# Altium schematic symbol library E-Stall_lib.SchLib: 14 symbols
Pins are listed as number, name and electrical type; pins without a type are passive.

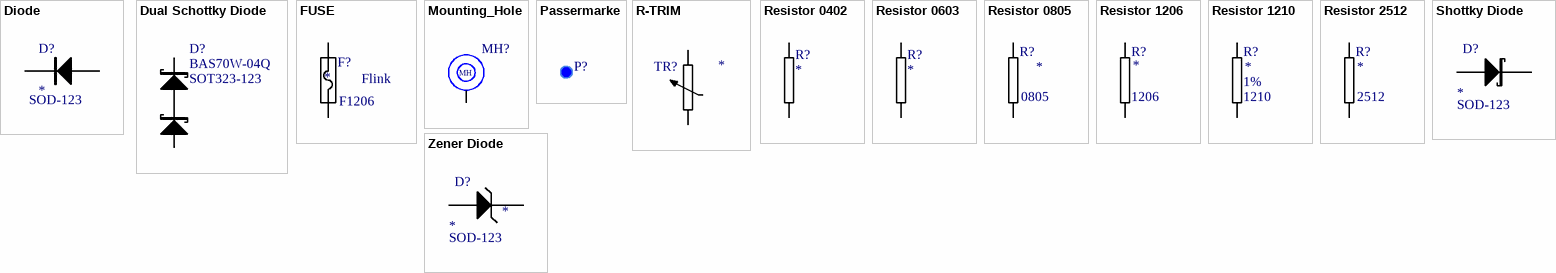
[diagram p0: symbols Diode to Zener Diode]

## Diode
designator D?
Single Standard Diode; Model: *; PowerRating: *; Diode Type: Standard Diode; ComponentLink1Description: Datasheet; ComponentLink1URL: http://
footprint DO - 213AA - SM1 (MELF Diode, 2-Leads, Body 3,50x1,35mm, IPC High Density)
footprint DO - 213AB - SM1 (MELF Diode, 2-Leads, Body 5,73x2,10mm, IPC High Density)
footprint DO - 214AA - SMB (Molded Diode, 2-Leads, Body 4,32x3,63mm, IPC High Density)
footprint DO - 214AB - SMC (Molded Diode, 2-Leads, Body 6,85x5,90mm, IPC High Density)
footprint DO - 214AC - SMA (Molded Diode, 2-Leads, Body 4,25x2,67mm, IPC High Density)
footprint SOD-123
footprint SOD-323
footprint DO - 214AC HV_Spacing (DO-214 1.2kV SiC-Diode , 2-Leads, Body 4,31x3,62mm, IPC Medium Density)
pins: A, K

## Dual Schottky Diode
designator D?, comment BAS70W-04Q
DUAL SCHOTTKY DIODE SERIES; Model: BAS70W-04Q
footprint SOT323-123 (SOT23 WITH A/K PIN NUMBERS)
pins: 1, 2, 3

## FUSE
designator F?  Charakteristik: Flink
Sicherung; Vmax: *; Value: *
footprint Littlefuse 485 Series
footprint F1206 (Fuse 1206)
footprint F0603 (Chip Fuse, 2-Leads, Body 1,57x0,85mm, IPC High Density)
footprint F0805 (Chip Fuse, 2-Leads, Body 2,05x1,25mm, IPC High Density)
footprint F1812 (Chip Fuse, 2-Leads, Body 4,50x3,20mm, IPC Medium Density)
footprint F1210 (Chip Fuse, 2-Leads, Body 3,20x2,50mm, IPC Medium Density)
footprint F2920 (Chip Fuse, 2-Leads, Body 7,36x5,12mm, IPC Medium Density)
footprint F2016
footprint F2018 (Chip Fuse, 2-Leads, Body 5,08x4,56mm, IPC Medium Density)
footprint F2410 (Footprint für 2410 Sicherungen)
pins: 1, 2

## Mounting_Hole
designator MH?  (value not drawn)  (no BOM)
Montagebohrung
footprint Mountinghole_Screw (Hole with 3D Model of Würth WE-SCRW M3x4mm)
footprint Mountinghole_Nut (Hole with 3D Model of DIN 985 Locknut +Keepout for Wera Nut driver)
pins: 0
text: MH

## Passermarke
designator P?  (value not drawn)
Passermarke für die Automatische Bestückung bei Kurz Elektronik
footprint Passermarke

## R-TRIM
designator TR?
Potentiometer; Value: *
footprint BOURNS_3296W_POT (poti_W_style)
footprint VISHAY_TS53YJ_POT (SMD Potentiometer VISHAY TS53YJ)
pins: 1, 2, 3

## Resistor 0402
designator R?
Resistor 0402; Rated Power: 0,1W; Max Voltage: 75V; Tolerance: 1%; ComponentLink1Description: Datasheet; ComponentLink1URL: http://www.farnell.com/datasheets/1960319.pdf?_ga=2.114917703.1125971746.1567871307-805392374.1556992174; Value: *; Footprint: 0603
footprint R0402 (Chip Resistor, 2-Leads, Body 1,00x0,50mm, IPC High Density)
pins: 1, 2

## Resistor 0603
designator R?
Resistor 0603; Rated Power: 0,1W; Max Voltage: 75V; Tolerance: 1%; ComponentLink1Description: Datasheet; ComponentLink1URL: http://www.farnell.com/datasheets/1960319.pdf?_ga=2.114917703.1125971746.1567871307-805392374.1556992174; Value: *; Footprint: 0603
footprint R0603 (Chip Resistor, 2-Leads, Body 1,57x0,85mm, IPC High Density)
pins: 1, 2

## Resistor 0805
designator R?  Footprint: 0805
Resistor 0805; Rated Power: 0,125W; Max Voltage: 150V; Tolerance: 1%; Value: *; ComponentLink1Description: Datasheet; ComponentLink1URL: http://www.farnell.com/datasheets/2563624.pdf?_ga=2.77784404.1125971746.1567871307-805392374.1556992174
footprint R0805 (Chip Resistor, 2-Leads, Body 2,05x1,25mm, IPC High Density)
pins: 1, 2

## Resistor 1206
designator R?  Footprint: 1206
Resistor 1206; Rated Power: 0,25W; Max Voltage: 200; Tolerance: 1%; Value: *; ComponentLink1Description: Datasheet; ComponentLink1URL: http://www.farnell.com/datasheets/2563624.pdf?_ga=2.110332101.1125971746.1567871307-805392374.1556992174
footprint R1206 (Chip Resistor, 2-Leads, Body 3,10x1,57mm, IPC High Density)
pins: 1, 2

## Resistor 1210
designator R?  Tolerance: 1%  Footprint: 1210
Resistor 1210; Rated Power: 0,5W; Max Voltage: 200; Value: *; ComponentLink1Description: Datasheet; ComponentLink1URL: http://www.farnell.com/datasheets/2310790.pdf?_ga=2.8448245.1125971746.1567871307-805392374.1556992174
footprint R1210 (Chip Resistor, 2-Leads, Body 3,20x2,50mm, IPC High Density)
pins: 1, 2

## Resistor 2512
designator R?  Footprint: 2512
Resistor 2512; Rated Power: 1W; Max Voltage: 500; Tolerance: 1%; Value: *; ComponentLink1Description: Datasheet; ComponentLink1URL: http://www.farnell.com/datasheets/2310790.pdf?_ga=2.8448245.1125971746.1567871307-805392374.1556992174
footprint R2512 (Chip Resistor, 2-Leads, Body 6,40x3,20mm, IPC High Density)
pins: 1, 2

## Shottky Diode
designator D?
Single Shottky Diode; Diode Type: Schottky; Model: *; ComponentLink1Description: Datasheet; ComponentLink1URL: http://; PowerRating: *
footprint DO - 213AA - SM1 (MELF Diode, 2-Leads, Body 3,50x1,35mm, IPC High Density)
footprint DO - 213AB - SM1 (MELF Diode, 2-Leads, Body 5,73x2,10mm, IPC High Density)
footprint DO - 214AA - SMB (Molded Diode, 2-Leads, Body 4,32x3,63mm, IPC High Density)
footprint DO - 214AB - SMC (Molded Diode, 2-Leads, Body 6,85x5,90mm, IPC High Density)
footprint DO - 214AC - SMA (Molded Diode, 2-Leads, Body 4,25x2,67mm, IPC High Density)
footprint SOD-123
footprint SOD-323
footprint DPAK-DIODE-D (DPAK Diode Doppelt); pin to pad A>A1
footprint DO - 214AC HV_Spacing (DO-214 1.2kV SiC-Diode , 2-Leads, Body 4,31x3,62mm, IPC Medium Density)
pins: A, K

## Zener Diode
designator D?
Single Zener Diode; Diode Type: Zener; Model: *; ComponentLink1Description: Datasheet; ComponentLink1URL: http://; PowerRating: *; ZenerVoltage: *
footprint DO - 213AA - SM1 (MELF Diode, 2-Leads, Body 3,50x1,35mm, IPC High Density)
footprint DO - 213AB - SM1 (MELF Diode, 2-Leads, Body 5,73x2,10mm, IPC High Density)
footprint DO - 214AA - SMB (Molded Diode, 2-Leads, Body 4,32x3,63mm, IPC High Density)
footprint DO - 214AB - SMC (Molded Diode, 2-Leads, Body 6,85x5,90mm, IPC High Density)
footprint DO - 214AC - SMA (Molded Diode, 2-Leads, Body 4,25x2,67mm, IPC High Density)
footprint SOD-123
footprint SOD-323
pins: A, K